# Altium schematic symbol library dipswitch.SchLib: 1 symbol
Pins are listed as number, name and electrical type; pins without a type are passive.

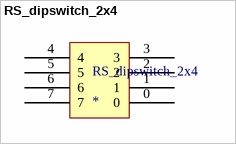
[diagram p0: symbol RS_dipswitch_2x4]

## RS_dipswitch_2x4
designator RS_dipswitch_2x4
footprint RS_dipswitch_2x4
pins: 0, 1, 2, 3, 4, 5, 6, 7